# Altium footprint library DDS1.PcbLib: 136 footprints (part 8 of 9)
Each footprint in its own frame and in the unit in brackets; x right, y up, seen from the top. Pads: shape width x height; smd on the part's side, far side on the other; paste and mask are expansions set on the pad; w line width, h text height; cw(c..) or ccw(c..) is an arc to the next point about the centre after c.
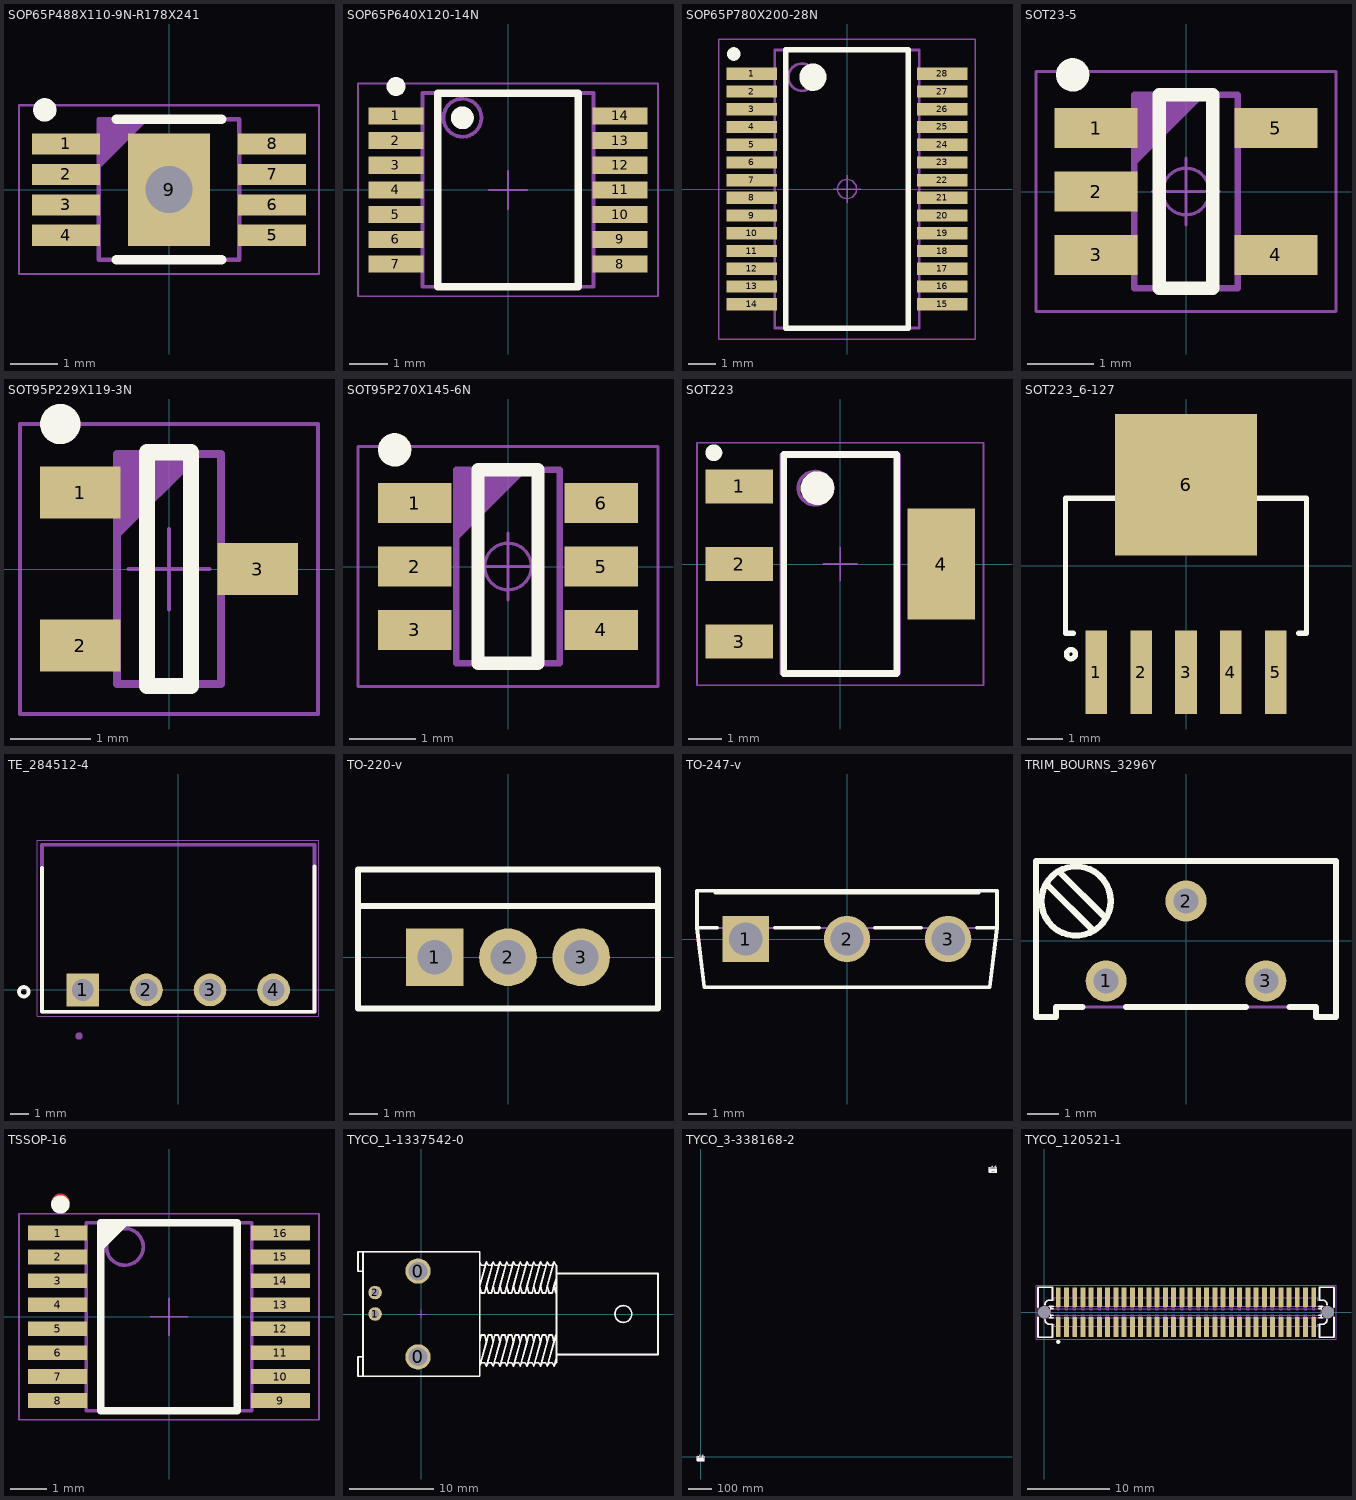
[diagram p7: the footprints below, top view; thin cyan lines are the x and y axes]

## SOP65P488X110-9N-R178X241 [mm] "SOP, 8-Leads, Body 3x3mm (max), Pitch 0.65mm, (w/thermal tab 2 .41 X 1.78 mm), IPC Medium Density"
height 1.1
pads (9):
  rect 1.45x0.45 smd: 1(-2.2,0.975) 2(-2.2,0.325) 3(-2.2,-0.325) 4(-2.2,-0.975) 5(2.2,-0.975) 6(2.2,-0.325) 7(2.2,0.325) 8(2.2,0.975)
  rect 1.75x2.4 hole 1: 9(0,0)
Top Overlay:
  circle w0.25: c-2.65,1.7 r0.125
  lines w0.2: -1.125,-1.5 1.125,-1.5 ; -1.125,1.5 1.125,1.5
Mechanical 14:
  lines w0.1: -1.5,0.5 -0.5,1.5 ; -1.5,0.6 -0.6,1.5 ; -1.5,0.7 -0.7,1.5 ; -1.5,0.8 -0.8,1.5 ; -1.5,0.9 -0.9,1.5 ; -1.5,1 -1,1.5 ; -1.5,1.1 -1.1,1.5 ; -1.5,1.2 -1.2,1.5 ; -1.5,1.3 -1.3,1.5 ; -1.5,1.4 -1.4,1.5 ; -1.5,-1.5 1.5,-1.5 1.5,1.5 -1.5,1.5 -1.5,-1.5
Mechanical 15:
  lines w0.05: -0.5,0 0.5,0 ; 0,-0.5 0,0.5 ; -3.2,-1.8 -3.2,1.8 3.2,1.8 3.2,-1.8 -3.2,-1.8
3D body "SOP65P488X110-9N-R178X241.stp": height 1.1, standoff 0, extent -2.45,-1.55 2.45,1.55

## SOP65P640X120-14N [mm] "SOP, 14-Leads, Body 5.1x4.5mm (max), Pitch 0.65mm, IPC Medium Density"
height 1.2
pads (14):
  rect 1.45x0.45 smd: 1(-2.95,1.95) 2(-2.95,1.3) 3(-2.95,0.65) 4(-2.95,0) 5(-2.95,-0.65) 6(-2.95,-1.3) 7(-2.95,-1.95) 8(2.95,-1.95) 9(2.95,-1.3) 10(2.95,-0.65) 11(2.95,0) 12(2.95,0.65) 13(2.95,1.3) 14(2.95,1.95)
Top Overlay:
  circle w0.3: c-1.2,1.9 r0.15
  circle w0.25: c-2.95,2.725 r0.125
  lines w0.2: -1.85,-2.55 1.85,-2.55 1.85,2.55 -1.85,2.55 -1.85,-2.55
Mechanical 14:
  circle w0.1: c-1.2,1.9 r0.5
  lines w0.1: -2.25,-2.55 2.25,-2.55 2.25,2.55 -2.25,2.55 -2.25,-2.55
Mechanical 15:
  lines w0.05: -0.5,0 0.5,0 ; 0,-0.5 0,0.5 ; -3.95,-2.8 3.95,-2.8 3.95,2.8 -3.95,2.8 -3.95,-2.8
3D body "SOP65P640X120-14N.stp": height 1.2, standoff 0, extent -3.121,-2.55 3.121,2.55

## SOP65P780X200-28N [mm] "SOP, 0.65mm Pitch; 28 Pin, 5.30mm W X 10.20mm L X 2.00mm H Body, IPC Medium Density"
height 2
pads (28):
  rect 1.85x0.45 smd: 1(-3.5,4.225) 2(-3.5,3.575) 3(-3.5,2.925) 4(-3.5,2.275) 5(-3.5,1.625) 6(-3.5,0.975) 7(-3.5,0.325) 8(-3.5,-0.325) 9(-3.5,-0.975) 10(-3.5,-1.625) 11(-3.5,-2.275) 12(-3.5,-2.925) 13(-3.5,-3.575) 14(-3.5,-4.225) 15(3.5,-4.225) 16(3.5,-3.575) 17(3.5,-2.925) 18(3.5,-2.275) 19(3.5,-1.625) 20(3.5,-0.975) 21(3.5,-0.325) 22(3.5,0.325) 23(3.5,0.975) 24(3.5,1.625) 25(3.5,2.275) 26(3.5,2.925) 27(3.5,3.575) 28(3.5,4.225)
Top Overlay:
  circle w0.5: c-1.25,4.1 r0.25
  circle w0.25: c-4.15,4.95 r0.125
  lines w0.2: -2.25,-5.1 2.25,-5.1 2.25,5.1 -2.25,5.1 -2.25,-5.1
Mechanical 14:
  circle w0.1: c-1.65,4.1 r0.5
  lines w0.1: -2.65,-5.1 2.65,-5.1 2.65,5.1 -2.65,5.1 -2.65,-5.1
Mechanical 15:
  circle w0.05: c0,0 r0.35
  lines w0.05: -0.5,0 0.5,0 ; 0,-0.5 0,0.5 ; -4.7,-5.5 4.7,-5.5 4.7,5.5 -4.7,5.5 -4.7,-5.5
3D body "SOP65P780X200-28N.stp": height 2, standoff 0, extent -4.114,-5.25 4.114,5.25

## SOT23-5 [mm] "SOT, 0.95mm Pitch; 5 Pin,1.55mm W X 2.90mm L X 1.45mm H body, IPC Medium Density"
height 1.45
pads (5):
  rect 1.25x0.6 smd: 1(-1.35,0.95) 2(-1.35,0) 3(-1.35,-0.95) 4(1.35,-0.95) 5(1.35,0.95)
Top Overlay:
  circle w0.25: c-1.7,1.75 r0.125
  lines w0.2: -0.4,-1.45 0.4,-1.45 0.4,1.45 -0.4,1.45 -0.4,-1.45
Mechanical 14:
  lines w0.1: -0.775,0.45 0.225,1.45 ; -0.775,0.55 0.125,1.45 ; -0.775,0.65 0.025,1.45 ; -0.775,0.75 -0.075,1.45 ; -0.775,0.85 -0.175,1.45 ; -0.775,0.95 -0.275,1.45 ; -0.775,1.05 -0.375,1.45 ; -0.775,1.15 -0.475,1.45 ; -0.775,1.25 -0.575,1.45 ; -0.775,1.35 -0.675,1.45 ; -0.775,-1.45 0.775,-1.45 0.775,1.45 -0.775,1.45 -0.775,-1.45
Mechanical 15:
  circle w0.05: c0,0 r0.35
  lines w0.05: -0.5,0 0.5,0 ; 0,-0.5 0,0.5 ; -2.25,-1.8 2.25,-1.8 2.25,1.8 -2.25,1.8 -2.25,-1.8
3D body "SOT95P270X145-5N.stp": height 1.45, standoff 0.01, extent -1.351,-1.45 1.351,1.45

## SOT95P229X119-3N [mm] "SOT23 3-Leads, 0.95mm pitch; 3 pin, 1.296mm W X 2.858mm L X 1.194mm H body, IPC Medium Density"
height 1.19
pads (3):
  rect 1x0.65 smd: 1(-1.1,0.95) 2(-1.1,-0.95) 3(1.1,0)
Top Overlay:
  circle w0.25: c-1.35,1.8 r0.125
  lines w0.2: -0.275,-1.45 0.275,-1.45 0.275,1.45 -0.275,1.45 -0.275,-1.45
Mechanical 14:
  lines w0.1: -0.648,0.429 0.352,1.429 ; -0.648,0.529 0.252,1.429 ; -0.648,0.629 0.152,1.429 ; -0.648,0.729 0.052,1.429 ; -0.648,0.829 -0.048,1.429 ; -0.648,0.929 -0.148,1.429 ; -0.648,1.029 -0.248,1.429 ; -0.648,1.129 -0.348,1.429 ; -0.648,1.229 -0.448,1.429 ; -0.648,1.329 -0.548,1.429 ; -0.648,-1.429 -0.648,1.429 0.648,1.429 0.648,-1.429 -0.648,-1.429
Mechanical 15:
  lines w0.05: -0.5,0 0.5,0 ; 0,-0.5 0,0.5 ; -1.85,-1.8 -1.85,1.8 1.85,1.8 1.85,-1.8 -1.85,-1.8
3D body "SOT95P229X119-3N.stp": height 1.19, standoff 0, extent -1.25,-1.5 1.25,1.5

## SOT95P270X145-6N [mm] "SOT, 0.95mm Pitch; 6 Pin,1.55mm W X 2.90mm L X 1.45mm H body, IPC Medium Density"
height 1.45
pads (6):
  rect 1.1x0.6 smd: 1(-1.4,0.95) 2(-1.4,0) 3(-1.4,-0.95) 4(1.4,-0.95) 5(1.4,0) 6(1.4,0.95)
Top Overlay:
  circle w0.25: c-1.7,1.75 r0.125
  lines w0.2: -0.45,-1.45 0.45,-1.45 0.45,1.45 -0.45,1.45 -0.45,-1.45
Mechanical 14:
  lines w0.1: -0.775,0.45 0.225,1.45 ; -0.775,0.55 0.125,1.45 ; -0.775,0.65 0.025,1.45 ; -0.775,0.75 -0.075,1.45 ; -0.775,0.85 -0.175,1.45 ; -0.775,0.95 -0.275,1.45 ; -0.775,1.05 -0.375,1.45 ; -0.775,1.15 -0.475,1.45 ; -0.775,1.25 -0.575,1.45 ; -0.775,1.35 -0.675,1.45 ; -0.775,-1.45 0.775,-1.45 0.775,1.45 -0.775,1.45 -0.775,-1.45
Mechanical 15:
  circle w0.05: c0,0 r0.35
  lines w0.05: -0.5,0 0.5,0 ; 0,-0.5 0,0.5 ; -2.25,-1.8 2.25,-1.8 2.25,1.8 -2.25,1.8 -2.25,-1.8
3D body "SOT95P270X145-6N.stp": height 1.45, standoff 0.01, extent -1.351,-1.45 1.351,1.45

## SOT223 [mm] "SOT223, 2.30mm pitch; 3 pin, 3.70mm W X 6.70mm L, IPC Medium Density"
height 1.75
pads (4):
  rect 2x1 smd: 1(-3,2.3) 2(-3,0) 3(-3,-2.3)
  rect 2x3.3 smd: 4(3,0)
Top Overlay:
  circle w0.5: c-0.675,2.25 r0.25
  circle w0.25: c-3.75,3.3 r0.125
  lines w0.2: -1.675,-3.25 1.675,-3.25 1.675,3.25 -1.675,3.25 -1.675,-3.25
Mechanical 14:
  circle w0.1: c-0.75,2.25 r0.5
  lines w0.1: -1.75,-3.25 1.75,-3.25 1.75,3.25 -1.75,3.25 -1.75,-3.25
Mechanical 15:
  lines w0.05: -0.5,0 0.5,0 ; 0,-0.5 0,0.5 ; -4.25,-3.6 4.25,-3.6 4.25,3.6 -4.25,3.6 -4.25,-3.6
3D body "SOT230P700X175-4N.stp": height 1.75, standoff 0, extent -3.649,-3.35 3.649,3.35

## SOT223_6-127 [mil]
pads (6):
  rect 24x93 smd paste+0 mask+0: 1(-100,-118.5) 2(-50,-118.5) 3(0,-118.5) 4(50,-118.5) 5(100,-118.5)
  rect 157.48x157.48 smd: 6(0,90)
Top Overlay:
  circle w6: c-127.95,-98.43 r5
  lines w6: -125.1,-75 -134,-75 -134,75 -75.1,75 ; 75.1,75 134,75 134,-75 125.1,-75
Top Paste:
  region: 62,72 62,165 -62,165 -62,72
Mechanical 13:
  lines w1: -110,-143 -90,-143 ; -60,-143 -40,-143 ; -10,-143 10,-143 ; 40,-143 60,-143 ; 90,-143 110,-143
3D body "DCQ6_TEX-M.step": height 71.1, standoff 0, extent -129.01,-142.99 129.02,143
3D body: height 10, standoff 0, extent 0,0 10,10

## TE_284512-4 [mm]
pads (4):
  rect 1.8x1.8 / inner round 1.8 / far side rect 1.8x1.8 hole 1.2: 1(-5.25,0)
  round 1.8 hole 1.2: 2(-1.75,0) 3(1.75,0) 4(5.25,0)
Top Overlay:
  circle w0.2: c-8.5,-0.1 r0.264
  lines w0.2: -7.5,6.731 -7.5,-1.2 7.5,-1.2 7.5,6.8
Mechanical 14:
  circle w0.2: c-5.461,-2.54 r0.1
  lines w0.2: -7.5,-1.2 7.5,-1.2 7.5,8 -7.5,8 -7.5,-1.2
Mechanical 15:
  lines w0.05: -7.75,-1.45 7.75,-1.45 7.75,8.25 -7.75,8.25 -7.75,-1.45
3D body "step_temp.STEP": height 7.25, standoff -3.4, extent -8,-1.2 8,8

## TO-220-v [mm] "TO-220 3-Terminal - Vertical Mount"
height 22.86
pads (3):
  rect 2x2 hole 1.2: 1(-2.54,0)
  round 2 hole 1.2: 2(0,0) 3(2.54,0)
Top Overlay:
  lines w0.2: -5.207,1.778 5.207,1.778 ; -5.207,-1.778 -5.207,3.048 5.207,3.048 5.207,-1.778 -5.207,-1.778
Mechanical 14:
  lines w0.1: -5.207,1.778 5.207,1.778 ; -5.207,-1.778 -5.207,3.048 5.207,3.048 5.207,-1.778 -5.207,-1.778
3D body "TO-220-V.stp": height 20.5, standoff -3.5, extent -5.27,-1.75 5.27,2.95

## TO-247-v [mm] "TO-247 3-Terminal - Vertical Mount"
height 25
pads (3):
  rect 2.5x2.5 hole 1.8: 1(-5.46,0)
  round 2.5 hole 1.8: 2(0,0) 3(5.46,0)
Top Overlay:
  lines w0.2: -7.1,2.6 -7.1,2.5 7.1,2.5 7.1,2.6 ; -7,0.6 -8.1,0.6 ; -3.9,0.6 -1.5,0.6 ; 1.5,0.6 4,0.6 ; 7,0.6 8.1,0.6 ; -8.1,0.6 -7.71,-2.6 7.71,-2.6 8.1,0.6 ; -8.1,0.6 -8.1,2.6 8.1,2.6 8.1,0.6
Mechanical 8:
  lines w0.1: -6.46,0 -5.46,0 ; -5.46,-1 -5.46,0 ; -5.46,1 -5.46,0 ; -4.46,0 -5.46,0 ; -1,0 0,0 ; 0,-1 0,0 ; 0,1 0,0 ; 1,0 0,0 ; 4.46,0 5.46,0 ; 5.46,-1 5.46,0 ; 5.46,1 5.46,0 ; 6.46,0 5.46,0
Mechanical 14:
  lines w0.1: -7.1,2.6 -7.1,2.5 7.1,2.5 7.1,2.6 ; -8.1,0.6 8.1,0.6 ; -8.1,0.6 -7.71,-2.6 7.71,-2.6 8.1,0.6 ; -8.1,0.6 -8.1,2.6 8.1,2.6 8.1,0.6
3D body "TO-247-V.stp": height 27.02, standoff -3.6, extent -8.1,-2.6 8.1,2.6

## TRIM_BOURNS_3296Y [mm] "Trimming Potentiometer BOURNS 3296Y Series"
height 11.55
pads (3):
  round 1.3 hole 0.8: 1(-2.54,-1.27) 2(0,1.27) 3(2.54,-1.27)
Top Overlay:
  circle w0.2: c-3.493,1.27 r1.1
  lines w0.2: -4.443,1.823 -2.939,0.319 ; -4.046,2.221 -2.542,0.717 ; -3.3,-2.095 -4.127,-2.095 -4.127,-2.413 -4.763,-2.413 -4.763,2.54 4.763,2.54 4.763,-2.413 4.127,-2.413 4.127,-2.095 3.3,-2.095 ; -1.9,-2.095 1.9,-2.095
Mechanical 14:
  circle w0.1: c-3.493,1.27 r1.1
  lines w0.1: -4.765,2.54 4.765,2.54 ; -4.763,2.54 -4.763,-2.413 -4.129,-2.413 ; -4.443,1.823 -2.939,0.319 ; -4.127,-2.413 -4.127,-2.095 4.127,-2.095 4.127,-2.413 4.763,-2.413 ; -4.046,2.221 -2.542,0.717 ; 4.763,-2.095 4.763,-2.412 ; 4.763,2.54 4.763,-2.413
3D body "TRIM_BOURNS_3296Y.stp": height 11.55, standoff -3.42, extent -4.765,-2.41 4.765,2.55

## TSSOP-16 [mm]
height 1.2
pads (16):
  rect 1.6x0.4 smd: 1(-3.025,2.275) 2(-3.025,1.625) 3(-3.025,0.975) 4(-3.025,0.325) 5(-3.025,-0.325) 6(-3.025,-0.975) 7(-3.025,-1.625) 8(-3.025,-2.275) 9(3.025,-2.275) 10(3.025,-1.625) 11(3.025,-0.975) 12(3.025,-0.325) 13(3.025,0.325) 14(3.025,0.975) 15(3.025,1.625) 16(3.025,2.275)
Top Layer:
  circle w0.25: c-2.95,3.1 r0.125
Top Overlay:
  circle w0.25: c-2.95,3.05 r0.125
  lines w0.2: -1.85,2.1 -1.4,2.55 ; -1.8,1.95 -1.2,2.55 ; -1.8,2.3 -1.6,2.5 ; -1.85,-2.55 -1.85,2.55 1.85,2.55 1.85,-2.55 -1.85,-2.55
Mechanical 14:
  circle w0.1: c-1.2,1.9 r0.5
  lines w0.1: -2.25,-2.55 -2.25,2.55 2.25,2.55 2.25,-2.55 -2.25,-2.55
Mechanical 15:
  lines w0.05: -0.5,0 0.5,0 ; 0,-0.5 0,0.5 ; -4.075,-2.8 -4.075,2.8 4.075,2.8 4.075,-2.8 -4.075,-2.8
3D body "SOP65P640X120-16N.stp": height 1.2, standoff 0, extent -3.121,-2.55 3.121,2.55

## TYCO_1-1337542-0 [mm]
pads (4):
  round 3 hole 2.2: 0(-0.4,-5.08) 0(-0.4,5.08)
  round 1.6 hole 0.9: 1(-5.48,0) 2(-5.48,2.54)
Top Overlay:
  drawing of 177 lines, arcs and shapes, not listed
Mechanical 8:
  lines w0.1: -5.98,0 -5.48,0 ; -5.98,2.54 -5.48,2.54 ; -5.48,-0.5 -5.48,0 ; -5.48,0.5 -5.48,0 ; -5.48,2.04 -5.48,2.54 ; -5.48,3.04 -5.48,2.54 ; -4.98,0 -5.48,0 ; -4.98,2.54 -5.48,2.54 ; -0.9,-5.08 -0.4,-5.08 ; -0.9,5.08 -0.4,5.08 ; -0.5,0 0,0 ; -0.4,-5.58 -0.4,-5.08 ; -0.4,-4.58 -0.4,-5.08 ; -0.4,4.58 -0.4,5.08 ; -0.4,5.58 -0.4,5.08 ; 0,-0.5 0,0 ; 0,0.5 0,0 ; 0.1,-5.08 -0.4,-5.08 ; 0.1,5.08 -0.4,5.08 ; 0.5,0 0,0
Mechanical 14:
  drawing of 177 lines, arcs and shapes, not listed
3D body "TYCO_1-1337542-0.stp": height 13.16, standoff -4.3, extent -7.5,-7.35 28,7.35

## TYCO_3-338168-2 [mm] "Right Angle D-SUB 9 Male Contacts, Shell Size 1, With Boardlock and Female Screwlocks with Inner Tread 4-40 UNC, HDP-20 Series"
height 13.6
pads (33):
  round 1.4 hole 0.7: 1(-5.48,1.27) 1(1255.57,1246.095) 1(1257.395,1246.995) 2(-2.74,1.27) 2(1258.31,1246.095) 2(1260.135,1246.995) 3(0,1.27) 3(1261.05,1246.095) 3(1262.875,1246.995) 4(2.74,1.27) 4(1263.79,1246.095) 4(1265.615,1246.995) 5(5.48,1.27) 5(1266.53,1246.095) 5(1268.355,1246.995) 6(-4.11,-1.27) 6(1256.94,1243.555) 6(1258.765,1244.455) 7(-1.37,-1.27) 7(1259.68,1243.555) 7(1261.505,1244.455) 8(1.37,-1.27) 8(1262.42,1243.555) 8(1264.245,1244.455) 9(4.11,-1.27) 9(1265.16,1243.555) 9(1266.985,1244.455)
  round 3.8 hole 3.1: 10(-12.5,0) 10(1248.55,1244.825) 10(1250.375,1245.725) 11(12.5,0) 11(1273.55,1244.825) 11(1275.375,1245.725)
Top Overlay:
  drawing of 405 lines, arcs and shapes, not listed
  text "6" at -6.2,-1.87 h1.2
  text "5" at 7,0.67 h1.2
  text "1" at -7.2,0.67 h1.2
  text "9" at 5.6,-1.87 h1.2
  text "9" at 1266.65,1242.955 h1.2
  text "1" at 1253.85,1245.495 h1.2
  text "5" at 1268.05,1245.495 h1.2
  text "6" at 1254.85,1242.955 h1.2
  text "9" at 1268.475,1243.855 h1.2
  text "1" at 1255.675,1246.395 h1.2
  text "5" at 1269.875,1246.395 h1.2
  text "6" at 1256.675,1243.855 h1.2
Mechanical 8:
  circle w0.05: c-5.48,1.27 r0.7
  circle w0.05: c-5.48,1.27 r0.35
  circle w0.05: c12.5,0 r1.55
  circle w0.05: c-12.5,0 r1.55
  circle w0.05: c1248.55,1244.825 r1.55
  circle w0.05: c1273.55,1244.825 r1.55
  circle w0.05: c1255.57,1246.095 r0.35
  circle w0.05: c1255.57,1246.095 r0.7
  circle w0.05: c1250.375,1245.725 r1.55
  circle w0.05: c1275.375,1245.725 r1.55
  circle w0.05: c1257.395,1246.995 r0.35
  circle w0.05: c1257.395,1246.995 r0.7
  lines w0.05: -13,0 -12.5,0 -12.5,-0.5 ; -5.48,0.77 -5.48,1.27 -4.98,1.27 ; -4.11,-0.77 -4.11,-1.27 -3.61,-1.27 ; -2.74,0.77 -2.74,1.27 -2.24,1.27 ; -1.37,-0.77 -1.37,-1.27 -0.87,-1.27 ; -0.5,0 0,0 0,-0.5 ; -0.5,1.27 0,1.27 0,0.77 ; 0.87,-1.27 1.37,-1.27 1.37,-0.77 ; 2.24,1.27 2.74,1.27 2.74,0.77 ; 3.61,-1.27 4.11,-1.27 4.11,-0.77 ; 4.98,1.27 5.48,1.27 5.48,0.77 ; 12,0 12.5,0 12.5,-0.5 ; 1248.05,1244.825 1248.55,1244.825 1248.55,1244.325 ; 1249.875,1245.725 1250.375,1245.725 1250.375,1245.225 ; 1255.57,1245.595 1255.57,1246.095 1256.07,1246.095 ; 1256.94,1244.055 1256.94,1243.555 1257.44,1243.555 ; 1257.395,1246.495 1257.395,1246.995 1257.895,1246.995 ; 1258.31,1245.595 1258.31,1246.095 1258.81,1246.095 ; 1258.765,1244.955 1258.765,1244.455 1259.265,1244.455 ; 1259.68,1244.055 1259.68,1243.555 1260.18,1243.555 ; 1260.135,1246.495 1260.135,1246.995 1260.635,1246.995 ; 1260.55,1244.825 1261.05,1244.825 1261.05,1244.325 ; 1260.55,1246.095 1261.05,1246.095 1261.05,1245.595 ; 1261.505,1244.955 1261.505,1244.455 1262.005,1244.455 ; 1261.92,1243.555 1262.42,1243.555 1262.42,1244.055 ; 1262.375,1245.725 1262.875,1245.725 1262.875,1245.225 ; 1262.375,1246.995 1262.875,1246.995 1262.875,1246.495 ; 1263.29,1246.095 1263.79,1246.095 1263.79,1245.595 ; 1263.745,1244.455 1264.245,1244.455 1264.245,1244.955 ; 1264.66,1243.555 1265.16,1243.555 1265.16,1244.055 ; 1265.115,1246.995 1265.615,1246.995 1265.615,1246.495 ; 1266.03,1246.095 1266.53,1246.095 1266.53,1245.595 ; 1266.485,1244.455 1266.985,1244.455 1266.985,1244.955 ; 1267.855,1246.995 1268.355,1246.995 1268.355,1246.495 ; 1273.05,1244.825 1273.55,1244.825 1273.55,1244.325 ; 1274.875,1245.725 1275.375,1245.725 1275.375,1245.225
Mechanical 14:
  drawing of 438 lines, arcs and shapes, not listed
3D body "TYCO_3-338168-2.stp": height 13.5, standoff -3.3, extent -15.5,-17.9 15.59,3.4
3D body "TYCO_3-338168-2.stp": height 13.5, standoff -3.3, extent 1245.55,1226.925 1276.64,1248.225
3D body "TYCO_3-338168-2.stp": height 13.5, standoff -3.3, extent 1247.375,1227.825 1278.465,1249.125

## TYCO_120521-1 [mm] "1mm Centerline, FH (IEEE 1386) Surface Mount, Stacking Board-to-Board Female Connectors"
height 5.4
pads (66):
  rect 0.6x2.4 smd: 1(1.7,-1.8) 2(1.7,1.8) 3(2.7,-1.8) 4(2.7,1.8) 5(3.7,-1.8) 6(3.7,1.8) 7(4.7,-1.8) 8(4.7,1.8) 9(5.7,-1.8) 10(5.7,1.8) 11(6.7,-1.8) 12(6.7,1.8) 13(7.7,-1.8) 14(7.7,1.8) 15(8.7,-1.8) 16(8.7,1.8) 17(9.7,-1.8) 18(9.7,1.8) 19(10.7,-1.8) 20(10.7,1.8) 21(11.7,-1.8) 22(11.7,1.8) 23(12.7,-1.8) 24(12.7,1.8) 25(13.7,-1.8) 26(13.7,1.8) 27(14.7,-1.8) 28(14.7,1.8) 29(15.7,-1.8) 30(15.7,1.8) 31(16.7,-1.8) 32(16.7,1.8) 33(17.7,-1.8) 34(17.7,1.8) 35(18.7,-1.8) 36(18.7,1.8) 37(19.7,-1.8) 38(19.7,1.8) 39(20.7,-1.8) 40(20.7,1.8) 41(21.7,-1.8) 42(21.7,1.8) 43(22.7,-1.8) 44(22.7,1.8) 45(23.7,-1.8) 46(23.7,1.8) 47(24.7,-1.8) 48(24.7,1.8) 49(25.7,-1.8) 50(25.7,1.8) 51(26.7,-1.8) 52(26.7,1.8) 53(27.7,-1.8) 54(27.7,1.8) 55(28.7,-1.8) 56(28.7,1.8) 57(29.7,-1.8) 58(29.7,1.8) 59(30.7,-1.8) 60(30.7,1.8) 61(31.7,-1.8) 62(31.7,1.8) 63(32.7,-1.8) 64(32.7,1.8)
  round 1 hole 1.5 unplated: 65(0,0) 66(34.4,0)
Top Overlay:
  circle w0.25: c1.7,-3.6 r0.125
  lines w0.2: -0.75,-0.6 -0.75,-3.025 1,-3.025 1,-1.46 0.64,-1.46 cw(c0.64,-0.91) 0.09,-0.91 ; -0.75,0.6 -0.75,3.025 1,3.025 1,1.46 0.64,1.46 ccw(c0.64,0.91) 0.09,0.91 ; 0.6,-0.69 1.1,-0.69 ; 0.6,0.69 1.1,0.69 ; 0.8,-0.69 0.8,-0.345 ; 0.8,-0.396 1.1,-0.396 ; 0.8,0.345 0.8,0.69 ; 0.8,0.396 1.1,0.396 ; 33.3,-0.69 33.8,-0.69 ; 33.3,-0.396 33.6,-0.396 ; 33.3,0.396 33.6,0.396 ; 33.3,0.69 33.8,0.69 ; 33.6,-0.69 33.6,-0.345 ; 33.6,0.345 33.6,0.69 ; 34.31,-0.91 cw(c33.76,-0.91) 33.76,-1.46 33.4,-1.46 33.4,-3.025 35.15,-3.025 35.15,-0.6 ; 34.31,0.91 ccw(c33.76,0.91) 33.76,1.46 33.4,1.46 33.4,3.025 35.15,3.025 35.15,0.6
Mechanical 14:
  drawing of 608 lines, arcs and shapes, not listed
Mechanical 15:
  lines w0.05: -1,-3.275 -1,3.275 35.4,3.275 35.4,-3.275 -1,-3.275
3D body "TYCO-AMP_120521-1.stp": height 5.4, standoff -0.73, extent -0.75,-3.025 35.15,3.025